# Altium footprint library MERES.PcbLib: 90 footprints (part 1 of 6)
Each footprint in its own frame and in the unit in brackets; x right, y up, seen from the top. Pads: shape width x height; smd on the part's side, far side on the other; paste and mask are expansions set on the pad; w line width, h text height; cw(c..) or ccw(c..) is an arc to the next point about the centre after c.
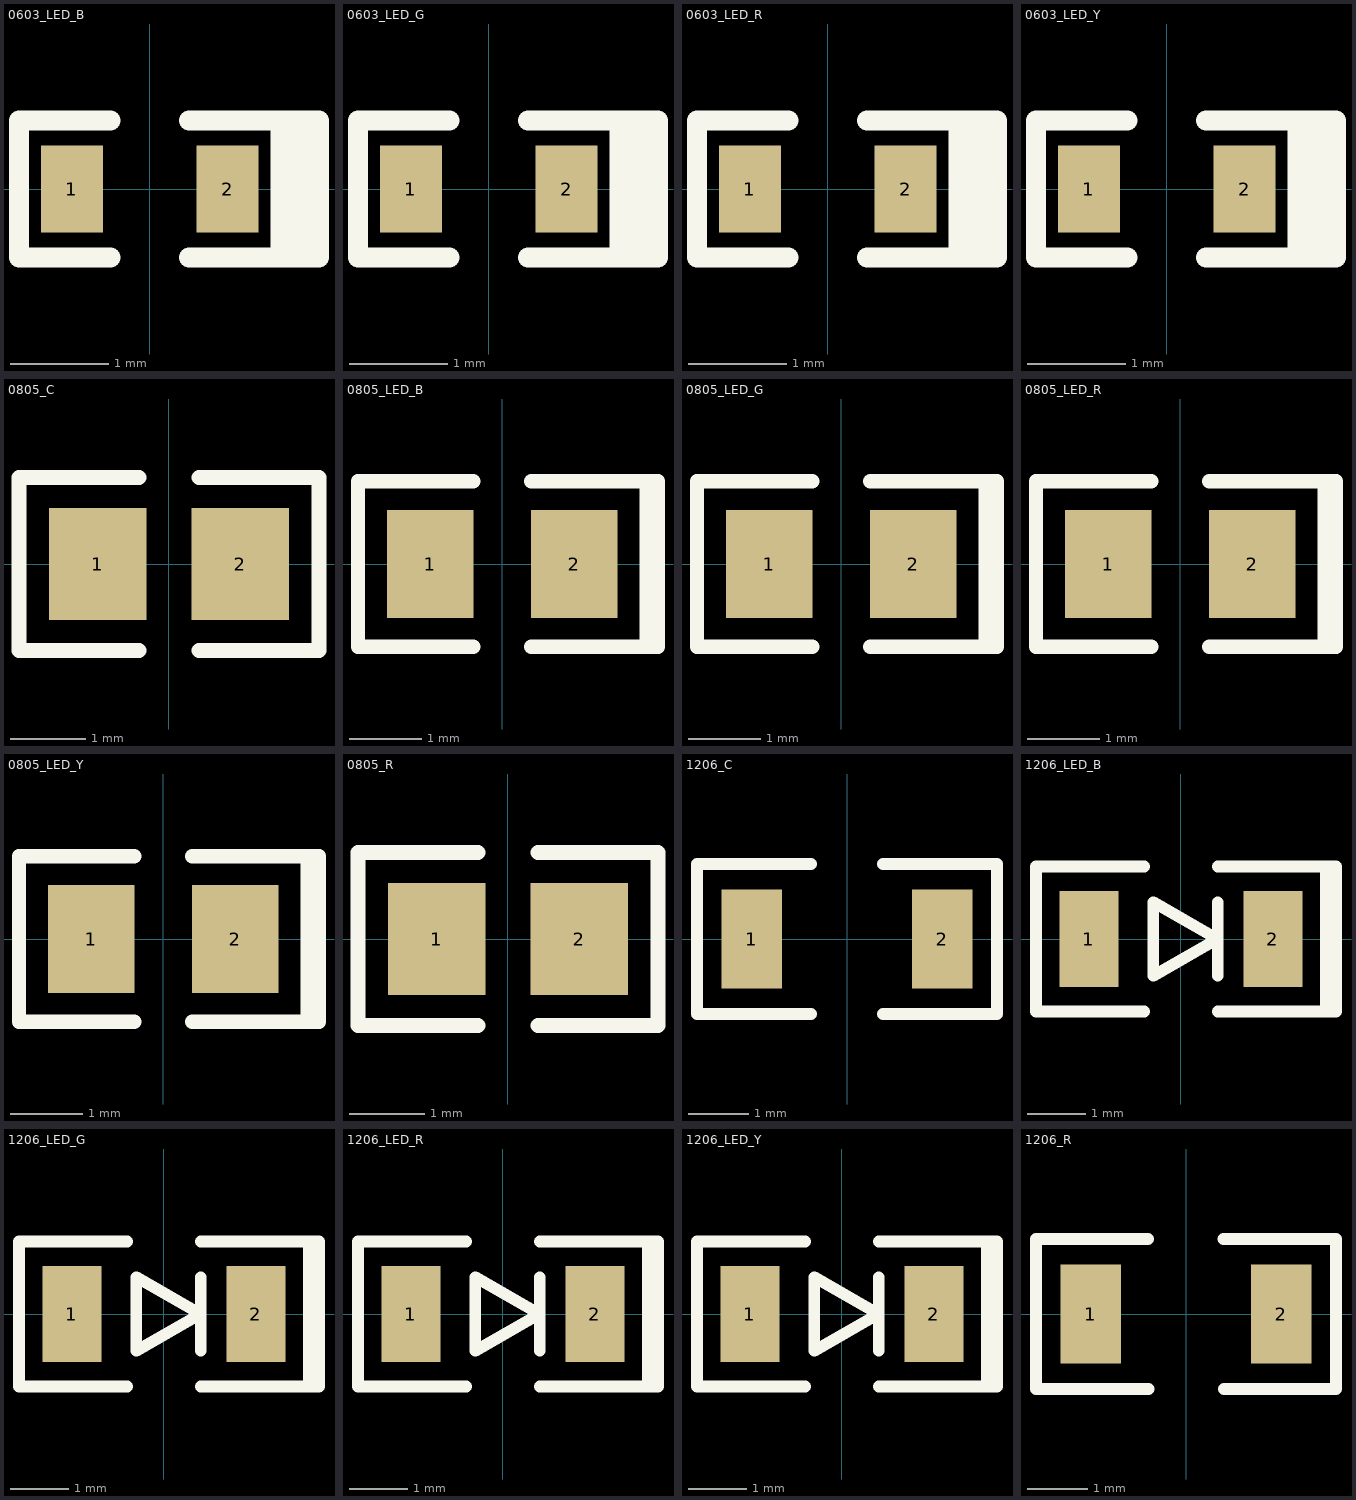
[diagram p0: the footprints below, top view; thin cyan lines are the x and y axes]

## 0603_LED_B [mil]
pads (2):
  rect 25x35 smd: 1(-31.25,0) 2(31.25,0)
Top Overlay:
  lines w8: -15.75,-27.5 -52.5,-27.5 -52.5,27.5 -15.75,27.5 ; 15.75,-27.5 52.5,-27.5 52.5,27.5 15.75,27.5 ; 31.25,-27.5 68,-27.5 68,27.5 31.25,27.5 ; 60,-27.5 60,27.5
3D body: height 44.45, standoff -0.83, extent -31.5,-17.72 31.5,17.72

## 0603_LED_G [mil]
pads (2):
  rect 25x35 smd: 1(-31.25,0) 2(31.25,0)
Top Overlay:
  lines w8: -15.75,-27.5 -52.5,-27.5 -52.5,27.5 -15.75,27.5 ; 15.75,-27.5 52.5,-27.5 52.5,27.5 15.75,27.5 ; 31.25,-27.5 68,-27.5 68,27.5 31.25,27.5 ; 60,-27.5 60,27.5
3D body: height 44.45, standoff -0.83, extent -31.5,-17.72 31.5,17.72

## 0603_LED_R [mil]
pads (2):
  rect 25x35 smd: 1(-31.25,0) 2(31.25,0)
Top Overlay:
  lines w8: -15.75,-27.5 -52.5,-27.5 -52.5,27.5 -15.75,27.5 ; 15.75,-27.5 52.5,-27.5 52.5,27.5 15.75,27.5 ; 31.25,-27.5 68,-27.5 68,27.5 31.25,27.5 ; 60,-27.5 60,27.5
3D body: height 44.45, standoff -0.83, extent -31.5,-17.72 31.5,17.72

## 0603_LED_Y [mil]
pads (2):
  rect 25x35 smd: 1(-31.25,0) 2(31.25,0)
Top Overlay:
  lines w8: -15.75,-27.5 -52.5,-27.5 -52.5,27.5 -15.75,27.5 ; 15.75,-27.5 52.5,-27.5 52.5,27.5 15.75,27.5 ; 31.25,-27.5 68,-27.5 68,27.5 31.25,27.5 ; 60,-27.5 60,27.5
3D body: height 44.45, standoff -0.83, extent -31.5,-17.72 31.5,17.72

## 0805_C [mm]
pads (2):
  rect 1.3x1.5 smd: 1(-0.95,0) 2(0.95,0)
Top Overlay:
  lines w0.2: -0.4,-1.15 -2,-1.15 -2,1.15 -0.4,1.15 ; 0.4,-1.15 2,-1.15 2,1.15 0.4,1.15
3D body: height 0.55, standoff -0.05, extent -1,-0.675 1,0.675

## 0805_LED_B [mm] "0805 kék LED"
pads (2):
  rect 1.2x1.5 smd: 1(-1,0) 2(1,0)
Top Overlay:
  lines w0.2: -0.4,-1.15 -2,-1.15 -2,1.15 -0.4,1.15 ; 0.4,-1.15 2.159,-1.15 2.159,1.15 0.4,1.15 ; 2,-1.15 2,1.15
3D body: height 1.1, standoff -0.05, extent -1,-0.675 1,0.675

## 0805_LED_G [mm] "0805 zöld LED"
pads (2):
  rect 1.2x1.5 smd: 1(-1,0) 2(1,0)
Top Overlay:
  lines w0.2: -0.4,-1.15 -2,-1.15 -2,1.15 -0.4,1.15 ; 0.4,-1.15 2.159,-1.15 2.159,1.15 0.4,1.15 ; 2,-1.15 2,1.15
3D body: height 1.1, standoff -0.05, extent -1,-0.675 1,0.675

## 0805_LED_R [mm] "0805 piros LED"
pads (2):
  rect 1.2x1.5 smd: 1(-1,0) 2(1,0)
Top Overlay:
  lines w0.2: -0.4,-1.15 -2,-1.15 -2,1.15 -0.4,1.15 ; 0.4,-1.15 2.159,-1.15 2.159,1.15 0.4,1.15 ; 2,-1.15 2,1.15
3D body: height 1.1, standoff -0.05, extent -1,-0.675 1,0.675

## 0805_LED_Y [mm] "0805 sárga LED"
pads (2):
  rect 1.2x1.5 smd: 1(-1,0) 2(1,0)
Top Overlay:
  lines w0.2: -0.4,-1.15 -2,-1.15 -2,1.15 -0.4,1.15 ; 0.4,-1.15 2.159,-1.15 2.159,1.15 0.4,1.15 ; 2,-1.15 2,1.15
3D body: height 1.1, standoff -0.05, extent -1,-0.675 1,0.675

## 0805_R [mm]
pads (2):
  rect 1.3x1.5 smd: 1(-0.95,0) 2(0.95,0)
Top Overlay:
  lines w0.2: -0.4,-1.15 -2,-1.15 -2,1.15 -0.4,1.15 ; 0.4,-1.15 2,-1.15 2,1.15 0.4,1.15
3D body: height 0.55, standoff -0.05, extent -1,-0.675 1,0.675

## 1206_C [mil]
pads (2):
  rect 40x65 smd: 1(-62.5,0) 2(62.5,0)
Top Overlay:
  lines w7.87: -23.62,-49.21 -98.43,-49.21 -98.43,49.21 -23.62,49.21 ; 23.62,-49.21 98.43,-49.21 98.43,49.21 23.62,49.21
3D body: height 24.8, standoff -0.8, extent -61.02,-32.46 61.02,32.5

## 1206_LED_B [mil]
pads (2):
  rect 40x65 smd: 1(-62.5,0) 2(62.5,0)
Top Overlay:
  lines w7.87: -25,-49.21 -98.43,-49.21 -98.43,49.21 -25,49.21 ; 25,-49.21 105.31,-49.21 105.31,49.21 25,49.21 ; 25,-25 25,25 ; 98.41,-49.21 98.41,46.26 ; -18.75,-25 25,0 -18.75,25 -18.75,-25
3D body: height 45.46, standoff 0.19, extent -62.99,-33.46 62.99,33.46

## 1206_LED_G [mil]
pads (2):
  rect 40x65 smd: 1(-62.5,0) 2(62.5,0)
Top Overlay:
  lines w7.87: -25,-49.21 -98.43,-49.21 -98.43,49.21 -25,49.21 ; 25,-49.21 105.31,-49.21 105.31,49.21 25,49.21 ; 25,-25 25,25 ; 98.41,-49.21 98.41,46.26 ; -18.75,-25 25,0 -18.75,25 -18.75,-25
3D body: height 45.46, standoff 0.19, extent -62.99,-33.46 62.99,33.46

## 1206_LED_R [mil]
pads (2):
  rect 40x65 smd: 1(-62.5,0) 2(62.5,0)
Top Overlay:
  lines w7.87: -25,-49.21 -98.43,-49.21 -98.43,49.21 -25,49.21 ; 25,-49.21 105.31,-49.21 105.31,49.21 25,49.21 ; 25,-25 25,25 ; 98.41,-49.21 98.41,46.26 ; -18.75,-25 -18.75,25 25,0 -18.75,-25
3D body: height 45.46, standoff 0.19, extent -62.99,-33.46 62.99,33.46

## 1206_LED_Y [mil]
pads (2):
  rect 40x65 smd: 1(-62.5,0) 2(62.5,0)
Top Overlay:
  lines w7.87: -25,-49.21 -98.43,-49.21 -98.43,49.21 -25,49.21 ; 25,-49.21 105.31,-49.21 105.31,49.21 25,49.21 ; 25,-25 25,25 ; 98.41,-49.21 98.41,46.26 ; -18.75,-25 -18.75,25 25,0 -18.75,-25
3D body: height 45.46, standoff 0.19, extent -62.99,-33.46 62.99,33.46

## 1206_R [mil]
pads (2):
  rect 40x65 smd: 1(-62.5,0) 2(62.5,0)
Top Overlay:
  lines w7.87: -25,49.21 -98.43,49.21 -98.43,-49.21 -24.61,-49.21 ; 24.61,49.21 98.43,49.21 98.43,-49.21 25,-49.21
3D body: height 24.8, standoff -0.8, extent -61.02,-32.46 61.02,32.5